# Altium schematic symbol library MCP1702T-2502E_CB.SchLib: 1 symbol
Pins are listed as number, name and electrical type; pins without a type are passive.

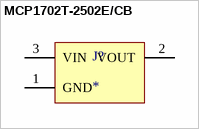
[diagram p0: symbol MCP1702T-2502E/CB]

## MCP1702T-2502E/CB
designator J?
MP: MCP1702T-2502E/CB; MF: Microchip; SnapEDA_Link: https://www.snapeda.com/parts/MCP1702T-2502E/CB/Microchip/view-part/43568/?ref=snap; Package: SOT-23 Microchip; DigiKey-Purchase-URL: https://snapeda.com/shop?store=DigiKey&id=43568; Digi-Key_Part_Number: MCP1702T-2502E/CBCT-ND; Value: *; Mouser-Purchase-URL: https://snapeda.com/shop?store=Mouser&id=43568
footprint SOT95P255X145-3N
pins: 1 GND, 2 VOUT, 3 VIN